# EAGLE library part RM2 (library RM2)
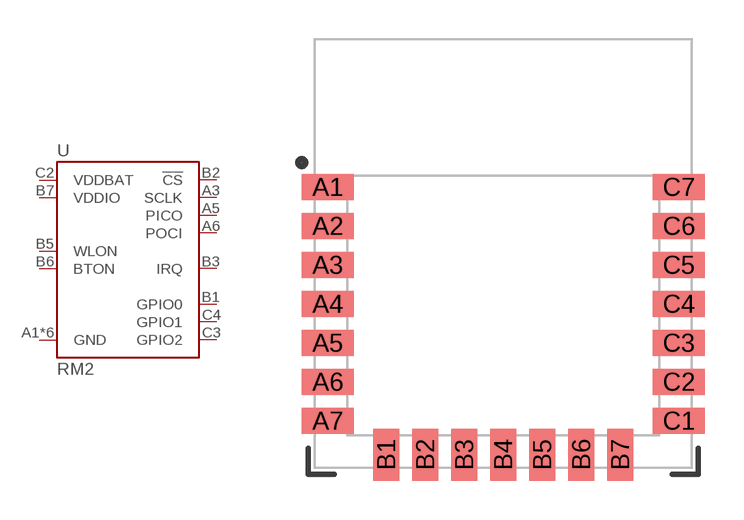
[diagram p0: symbol with the pads of RM2; footprint RM2]

Designator prefix U

## RM2 (PROD_ID: IC-21607)  [RM2]
A1  GND
A3  SCLK
A4  GND
A5  PICO
A6  POCI
A7  GND
B1  GPIO0
B2  !CS!
B3  IRQ
B4  GND
B5  WLON
B6  BTON
B7  VDDIO
C1  GND
C2  VDDBAT
C3  GPIO2
C4  GPIO1
C7  GND

## Footprint RM2 (pad centres in mm)
smd 2 x 1: A1 -6.75,2.55; A2 -6.75,1.05; A3 -6.75,-0.45; A4 -6.75,-1.95; A5 -6.75,-3.45; A6 -6.75,-4.95; A7 -6.75,-6.45; C1 6.75,-6.45; C2 6.75,-4.95; C3 6.75,-3.45; C4 6.75,-1.95; C5 6.75,-0.45; C6 6.75,1.05; C7 6.75,2.55
smd 1 x 2: B1 -4.5,-7.75; B2 -3,-7.75; B3 -1.5,-7.75; B4 0,-7.75; B5 1.5,-7.75; B6 3,-7.75; B7 4.5,-7.75